# EAGLE library part TRACOPOWER-TEN25 (library dimrobotics)
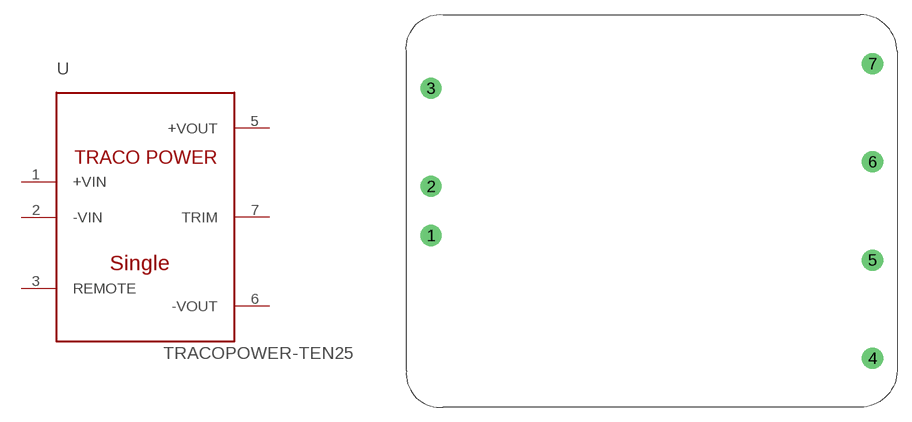
[diagram p6: symbol with the pads of TRACOPOWER-TEN25; footprint TRACOPOWER-TEN25]

Designator prefix -

## TRACOPOWER-TEN25-1211  [TRACOPOWER-TEN25]
1  +VIN  pwr
2  -VIN  pwr
3  REMOTE  out
5  +VOUT  out
6  -VOUT  out
7  TRIM  out

## Footprint TRACOPOWER-TEN25 (pad centres in mm)
drill 1.1 pad 2.184: 1 -22.86,-2.54; 2 -22.86,2.54; 3 -22.86,12.7; 4 22.86,-15.24; 5 22.86,-5.08; 6 22.86,5.08; 7 22.86,15.24